# Altium footprint library PCB - CONNECTOR - GCT - GCT DCJ250-15-A-K1-C.PCBLIB: 1 footprints
Each footprint in its own frame and in the unit in brackets; x right, y up, seen from the top. Pads: shape width x height; smd on the part's side, far side on the other; paste and mask are expansions set on the pad; w line width, h text height; cw(c..) or ccw(c..) is an arc to the next point about the centre after c.
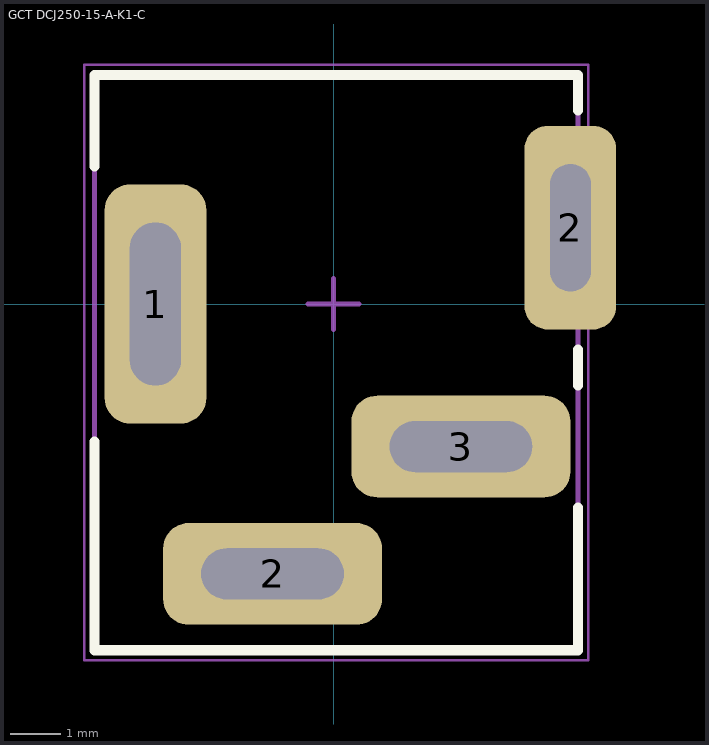
[diagram p0: the footprint, top view; thin cyan lines are the x and y axes]

## GCT DCJ250-15-A-K1-C [mm]
height 14.5
pads (4):
  rrect50% 2x4.7 hole 1 slot 3.2 at 90 deg: 1(-3.5,0)
  rrect50% 4.3x2 hole 1 slot 2.8 at 0 deg: 2(-1.2,-5.3) 3(2.5,-2.8)
  rrect50% 1.8x4 hole 0.8 slot 2.5 at 90 deg: 2(4.65,1.5)
Top Overlay:
  lines w0.2: -4.7,-2.7 -4.7,-6.8 4.8,-6.8 4.8,-4 ; -4.7,2.7 -4.7,4.5 4.8,4.5 4.8,3.8 ; 4.8,-1.6 4.8,-0.9
Mechanical 13:
  lines w0.1: -4.7,-6.8 -4.7,4.5 4.8,4.5 4.8,-6.8 -4.7,-6.8
Mechanical 15:
  lines w0.05: -4.9,-7 5,-7 5,4.7 -4.9,4.7 -4.9,-7
  lines w0.1: -0.5,0 0.5,0 ; 0,-0.5 0,0.5
3D body "GCT DCJ250-15-A-K1-C.step": height 14.5, standoff -1.5, extent -4.75,-6.75 4.75,4.45